# Altium schematic symbol library MLT-8530.SchLib: 1 symbol
Pins are listed as number, name and electrical type; pins without a type are passive.

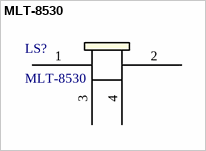
[diagram p0: symbol MLT-8530]

## MLT-8530
designator LS?
Description; Manufacturer_Name: Jiangsu Huaneng Elec; Copyright: Copyright (C) 2025 Ultra Librarian. All rights reserved.; Manufacturer_Part_Number: MLT-8530; RefDes: RefDes; Type: Type
footprint MLT-8530_JHE
pins: 1, 2, 3, 4